# Altium integrated library Capacitors.IntLib: 260 symbols (part 3 of 3)
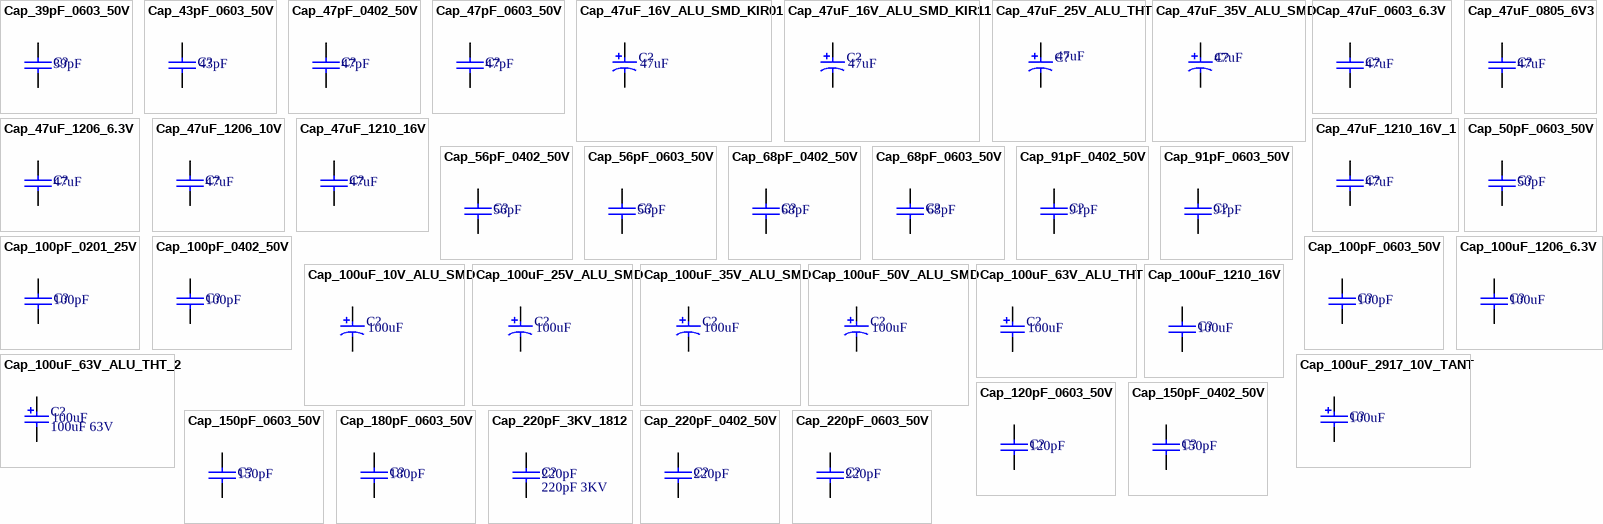
[diagram p8: symbols Cap_39pF_0603_50V to Cap_220pF_0603_50V]

## Cap_47uF_0805_6V3
designator C?, comment value 47uF  (hidden comment: 47uF 6V3)
CAP CER 47UF 6.3V X5R 0805; Manufacturer: Samsung Electro-Mechanics; Manufacturer Part Number: CL21A476MQYNNNE; Supplier 1: Digi-Key; Supplier Part Number 1: 1276-1852-1-ND; Last modified by: J.Jaramillo; Last modified date: 20240309; ComponentLink1Description: Digi-Key; ComponentLink1URL: https://www.digikey.com/products/en?keywords=1276-1852-1-ND
footprint 0805 (2012 Metric / 20190221 / C-A.Serna.A)
pins: 1, 2

## Cap_47uF_1206_6.3V
designator C?, comment value 47uF  (hidden comment: 47uF 6.3V)
CAP CER 47UF 6.3V X6S 1206; Manufacturer: Samsung Electro-Mechanics; Manufacturer Part Number: CL31X476KQHNNNE; Supplier 1: Digi-Key; Supplier Part Number 1: 1276-6771-1-ND; Reel stock: N/A; Last modified by: J.Jaramillo; Last modified date: 20240309; ComponentLink1Description: Digi-Key; ComponentLink1URL: https://www.digikey.com/products/en?keywords=1276-6771-1-ND
footprint 1206 (3216 Metric / 20190221 / C-A.Serna.A)
pins: 1, 2

## Cap_47uF_1206_10V
designator C?, comment value 47uF  (hidden comment: 47uF 10V)
CAP CER 47UF 10V X5R 1206; Manufacturer: Murata Electronics; Manufacturer Part Number: GRM31CR61A476ME15L; Supplier 1: Digi-Key; Supplier Part Number 1: 490-5528-1-ND; Last modified by: J.Jaramillo; Last modified date: 20240309; ComponentLink1Description: Digi-Key; ComponentLink1URL: https://www.digikey.com/en/products/detail/murata-electronics/GRM31CR61A476ME15L/2334879?s=N4IgTCBcDaIOICUCyBmAjAYQQNjQQQBYB2bJAUTQFYAZEAXQF8g
footprint 1206 (3216 Metric / 20190221 / C-A.Serna.A)
pins: 1, 2

## Cap_47uF_1210_16V
designator C?, comment value 47uF  (hidden comment: 47uF 16V)
CAP CER 47UF 16V X6S 1210; Manufacturer: Murata Electronics; Manufacturer Part Number: GRM32EC81C476KE15K; Supplier 1: Digi-Key; Supplier Part Number 1: 490-16309-1-ND; Last modified by: J.Jaramillo; Last modified date: 20240309; ComponentLink1Description: Digi-Key; ComponentLink1URL: https://www.digikey.com/en/products/detail/murata-electronics/GRM32EC81C476KE15K/7363053
footprint 1210 (3225 Metric / 20190221 / C-A.Serna.A)
pins: 1, 2

## Cap_47uF_1210_16V_1
designator C?, comment value 47uF  (hidden comment: 47uF 1210)
CAP CER 47UF 16V X5R 1210; Manufacturer: Taiyo Yuden; Manufacturer Part Number: EMK325BJ476MM-T; Supplier 1: Digi-Key; Supplier Part Number 1: 587-1436-1-ND; Last modified by: J.Jaramillo; Last modified date: 20240309; ComponentLink1Description: Digi-Key; ComponentLink1URL: https://www.digikey.com/en/products/detail/taiyo-yuden/EMK325BJ476MM-T/1004067
footprint 1210
pins: 1, 2

## Cap_50pF_0603_50V
designator C?, comment value 50pF  (hidden comment: 50pF 50V)
CAP CER 50PF 50V NP0 0603; Manufacturer: AVX Corporation; Manufacturer Part Number: 06035A500JAT2A; Supplier 1: Digi-Key; Supplier Part Number 1: 478-10324-1-ND; Last modified by: J.Jaramillo; Last modified date: 20240309; ComponentLink1Description: Digi-Key; ComponentLink1URL: https://www.digikey.com/en/products/detail/avx-corporation/06035A500JAT2A/1599883?s=N4IgTCBcDaICwHYAcBaAjABgMxjulAcgCIgC6AvkA
footprint 0603
pins: 1, 2

## Cap_56pF_0402_50V
designator C?, comment value 56pF  (hidden comment: 56pF 50V)
CAP CER 56PF 50V C0G/NP0 0402; Manufacturer: Samsung Electro-Mechanics; Manufacturer Part Number: CL05C560JB5NNNC; Supplier 1: Digi-Key; Supplier Part Number 1: 1276-1707-1-ND; Last modified by: J.Jaramillo; Last modified date: 20240309; ComponentLink1Description: Digi-Key; ComponentLink1URL: https://www.digikey.com/product-detail/en/samsung-electro-mechanics/CL05C560JB5NNNC/1276-1707-1-ND/3889793
footprint 0402 (1005 Metric / 20190221 / C-A.Serna.A)
footprint 0402_RF (1005 Metric / 20190221 / C-A.Serna.A)
pins: 1, 2

## Cap_56pF_0603_50V
designator C?, comment value 56pF  (hidden comment: 56pF 50V)
CAP CER 56PF 50V C0G/NP0 0603; Manufacturer: Samsung Electro-Mechanics; Manufacturer Part Number: CL10C560JB8NNNC; Supplier 1: Digi-Key; Supplier Part Number 1: 1276-1197-1-ND; Reel stock: N/A; Last modified by: J.Jaramillo; Last modified date: 20240309; ComponentLink1Description: Digi-Key; ComponentLink1URL: https://www.digikey.com/product-detail/en/samsung-electro-mechanics/CL10C560JB8NNNC/1276-1197-1-ND/3889283
footprint 0603
pins: 1, 2

## Cap_68pF_0402_50V
designator C?, comment value 68pF  (hidden comment: 68pF 50V)
CAP CER 68PF 50V C0G/NPO 0402; Manufacturer: Yageo; Manufacturer Part Number: CC0402JRNPO9BN680; Supplier 1: Digi-key; Supplier Part Number 1: 311-1340-1-ND; Last modified by: J.Jaramillo; Last modified date: 20240309; ComponentLink1Description: Digi-Key; ComponentLink1URL: https://www.digikey.com/product-detail/en/yageo/CC0402JRNPO9BN680/311-1340-1-ND/2103124
footprint 0402
footprint 0402_RF
pins: 1, 2

## Cap_68pF_0603_50V
designator C?, comment value 68pF  (hidden comment: 68pF 50V)
CAP CER 68PF 50V C0G/NP0 0603; Manufacturer: Walsin Technology Corporation; Manufacturer Part Number: 0603N680J500CT; Supplier 1: Digi-Key; Supplier Part Number 1: 1292-1542-1-ND; Last modified by: J.Jaramillo; Last modified date: 20240309; ComponentLink1Description: New link; ComponentLink1URL: https://www.digikey.com/en/products/detail/walsin-technology-corporation/0603N680J500CT/9355039
footprint 0603_0.8mm (1608 Metric/20230206/J-A.Sepulveda)
pins: 1, 2

## Cap_91pF_0402_50V
designator C?, comment 91pF
CAP CER 91PF 50V NPO 0402; Manufacturer: Yageo; Manufacturer Part Number: CC0402JRNPO9BN910; Supplier 1: Digikey; Supplier Part Number 1: 311-3756-1-ND; Last modified by: J.Jaramillo; Last modified date: 20240309; ComponentLink1Description: Digikey; ComponentLink1URL: https://www.digikey.com/en/products/detail/yageo/CC0402JRNPO9BN910/5883281?s=N4IgjCBcpgbFoDGUBmBDANgZwKYBoQB7KAbRAGYBOMAVgA4QBdAgBwBcoQBlNgJwEsAdgHMQAXwJhKdSghDJI6bPiKkQABiasOkbnyGiJIAEzqALLOjzUmXAWKQy1FgDEtIdpwCqg-mwDyKACyOGhYAK68OOIEALTGcgp84SoOZDTunroxILEQVgpKdqqO4OSZOiDiYmJAA; Value: 91pF
footprint 0402 (1005 Metric / 20190221 / C-A.Serna.A)
footprint 0402_RF (1005 Metric / 20190221 / C-A.Serna.A)
pins: 1, 2

## Cap_91pF_0603_50V
designator C?, comment 91pF
CAP CER 91PF 50V NP0 0603; Manufacturer: AVX Corporation; Manufacturer Part Number: 06035U910FAT2A; Supplier 1: Digikey; Supplier Part Number 1: 478-11383-1-ND; Last modified by: J.Jaramillo; Last modified date: 20240309; ComponentLink1Description: Digikey; ComponentLink1URL: https://www.digikey.com/en/products/detail/avx-corporation/06035U910FAT2A/1600386; Value: 91pF
footprint 0603 (1608 Metric / 20190221 / C-A.Serna.A)
pins: 1, 2

## Cap_100pF_0201_25V
designator C?, comment value 100pF  (hidden comment: 100pF 25V)
CAP CER 100PF 25V NP0 0201; Manufacturer: Murata Electronics; Manufacturer Part Number: GRM0335C1E101GA01D; Supplier 1: Digi-Key; Supplier Part Number 1: 490-17802-1-ND; Last modified by: J.Jaramillo; Last modified date: 20240309; ComponentLink1Description: Digi-Key; ComponentLink1URL: https://www.digikey.com/en/products/detail/murata-electronics/GRM0335C1E101GA01D/4358566?s=N4IgTCBcDaIOICUCyAGAzGgrAYQIwFFcVc4BBYgERAF0BfIA
footprint 0201 (20211214 / E.Naranjo)
pins: 1, 2

## Cap_100pF_0402_50V
designator C?, comment value 100pF  (hidden comment: 100pF 50V)
CAP CER 100PF 50V X7R 0402; Manufacturer: Wurth Electronics Inc.; Manufacturer Part Number: 885012205055; Supplier 1: Digi-Key; Supplier Part Number 1: 732-7550-1-ND; Reel stock: N/A; Last modified by: J.Jaramillo; Last modified date: 20240309; ComponentLink1Description: Digi-key; ComponentLink1URL: https://www.digikey.com/product-detail/en/wurth-electronics-inc/885012205055/732-7550-1-ND/5454177
footprint 0402
footprint 0402_RF
pins: 1, 2

## Cap_100pF_0603_50V
designator C?, comment value 100pF  (hidden comment: 100pF 550)
CAP CER 100PF 50V C0G/NPO 0603; Manufacturer Part Number: CC0603JRNPO9BN101; Manufacturer: Yageo; Last modified by: J.Jaramillo; Last modified date: 20240309; ComponentLink1Description: Digi-key; ComponentLink1URL: https://www.digikey.com/en/products/detail/yageo/CC0603JRNPO9BN101/302803?s=N4IgTCBcDaIMwEYEFoEAYBsBOVyByAIiALoC%2BQA; Reel stock: N/A; Supplier 1: Digi-Key; Supplier Part Number 1: 311-1069-1-ND
footprint 0603
pins: 1, 2

## Cap_100uF_10V_ALU_SMD
designator C?, comment value 100uF  (hidden comment: 100uF 20%)
CAP ALUM 100UF 20% 10V SMD; Manufacturer: Panasonic Electronic Components; Manufacturer Part Number: EEE-1AA101WAR; Supplier 1: Digi-Key; Supplier Part Number 1: PCE4566CT-ND; Last modified by: J.Jaramillo; Last modified date: 20220922; ComponentLink1Description: Digi-Key; ComponentLink1URL: https://www.digikey.com/en/products/detail/panasonic-electronic-components/EEE-1AA101WAR/1717732
footprint RADIAL_CAN_SMD_LSX5.30MM_HX5.40MM (20220922 / E,Naranjo)
pins: 1, 2

## Cap_100uF_25V_ALU_SMD
designator C?, comment value 100uF  (hidden comment: 100uF 25V)
CAP ALUM 100UF 20% 25V SMD; Manufacturer: Panasonic Electronic Components; Manufacturer Part Number: EEE-1EA101AP; Supplier 1: Digi-Key; Supplier Part Number 1: PCE4593CT-ND; Last modified by: J.Jaramillo; Last modified date: 20240309; ComponentLink1Description: Digi-Key; ComponentLink1URL: https://www.digikey.com/product-detail/en/panasonic-electronic-components/EEE-1EA101AP/PCE4593CT-ND/1718016
footprint RADIAL-CAN-SMD_Diax8mm_Hx10.2mm (20190503/J-P.Vargas.A)
pins: 1, 2

## Cap_100uF_35V_ALU_SMD
designator C?, comment value 100uF  (hidden comment: 100uF 50V)
CAP ALUM 100UF 20% 35V SMD; Manufacturer: Rubycon; Manufacturer Part Number: 50TZV100M8X10.5; Supplier 1: Digi-Key; Supplier Part Number 1: 1189-1651-1-ND; Last modified by: J.Jaramillo; Last modified date: 20220817; ComponentLink1Description: Digi-Key; ComponentLink1URL: https://www.digikey.com/en/products/detail/rubycon/50TZV100M8X10-5/3134931
footprint RADIAL-CAN-SMD_Diax8mm_Hx10.5mm (20220804/J-E.Pachon)
pins: 1, 2

## Cap_100uF_50V_ALU_SMD
designator C?, comment value 100uF  (hidden comment: 100uF 20%)
CAP ALUM 100uF ±20% 50V SMD; Manufacturer: Nichicon; Manufacturer Part Number: UWT1H101MNL1GS; Supplier 1: LCSC; Supplier Part Number 1: C445063; Reel stock: N/A; Last modified by: J.Jaramillo; Last modified date: 270326; ComponentLink1Description: LCSC; ComponentLink1URL: https://www.lcsc.com/product-detail/C445063.html?s_z=n_UWT1H101MNL1GS; ComponentLink2Description: Datasheet; ComponentLink2URL: https://www.lcsc.com/datasheet/C445063.pdf
footprint RADIAL-CAN-SMD_Diax8mm_Hx10.2mm (/  270326 / J.Jaramillo)
pins: 1, 2

## Cap_100uF_63V_ALU_THT
designator C?, comment value 100uF  (hidden comment: 100uF 63V)
CAP ALUM 100UF 20% 63V RADIAL; Manufacturer: Nichicon; Manufacturer Part Number: UVZ1J101MPD1TD; Supplier 1: Digi-Key; Supplier Part Number 1: 493-13479-1-ND; Last modified by: J.Jaramillo; Last modified date: 20240309; ComponentLink1Description: Digi-Key; ComponentLink1URL: https://www.digikey.com/product-detail/en/nichicon/UVZ1J101MPD1TD/493-13479-3-ND/4342035
footprint RADIAL-CAN_LSx5mm_Diax10mm_Hx14mm (/ 20190221 / C-A.Serna.A)
pins: 1, 2

## Cap_100uF_63V_ALU_THT_2
designator C?, comment 100uF 63V  value 100uF
CAP ALUM 100UF 20% 63V RADIAL; Manufacturer: SAMXON; Manufacturer Part Number: EGT-107M1JF11CE; ComponentLink1Description: New link; ComponentLink1URL: *; Last modified by: J.Jaramillo; Last modified date: 20240309; Supplier 1: Poshton; Supplier Part Number 1: EGT-107M1JF11CE
footprint RADIAL-CAN_LSx5mm_Diax8mm_Hx12mm (/20201209/J-E.Pachon)
pins: 1, 2

## Cap_100uF_1206_6.3V
designator C?, comment value 100uF  (hidden comment: 100uF 6.3V)
CAP CER 100UF 6.3V X5R 1206; Manufacturer Part Number: CC1206MKX5R5BB107; Manufacturer: Yageo; Reel stock: N/A; Last modified by: J.Jaramillo; Last modified date: 20240309; ComponentLink1Description: Digi-Key; ComponentLink1URL: https://www.digikey.com/en/products/detail/yageo/CC1206MKX5R5BB107/5195397?s=N4IgTCBcDaIMJwIxgAwDYCyBpAGgVgCU8AhYxFAdhAF0BfIA; Supplier 1: Digi-Key; Supplier Part Number 1: 13-CC1206MKX5R5BB107CT-ND
footprint 1206
pins: 1, 2

## Cap_100uF_1210_16V
designator C?, comment value 100uF  (hidden comment: 100uF 16V)
CAP CER 100UF 16V X5R 1210; Manufacturer: CAL-CHIP ELECTRONICS, INC.; Manufacturer Part Number: GMC32X5R107M16NT; Supplier 1: Digi-Key; Supplier Part Number 1: 2571-GMC32X5R107M16NTTR-ND; Last modified by: J.Jaramillo; Last modified date: 20240309
footprint 1210 (3225 Metric / 20190221 / C-A.Serna.A)
pins: 1, 2

## Cap_100uF_2917_10V_TANT
designator C?, comment value 100uF  (hidden comment: 100uF 10V)
CAP TANT 100UF 10% 10V 2917; Manufacturer: AVX Corporation; Manufacturer Part Number: TAJD107K010RNJ; Supplier 1: Digi-Key; Supplier Part Number 1: 478-3355-1-ND; Reel stock: N/A; Last modified by: J.Jaramillo; Last modified date: 20240309; ComponentLink1Description: Digi-Key; ComponentLink1URL: https://www.digikey.com/product-detail/en/avx-corporation/TAJD107K010RNJ/478-3355-1-ND/930147
footprint 2917_TANT (7343 Metric / 20230427/ J.Jaramillo)
pins: 1, 2

## Cap_120pF_0603_50V
designator C?, comment value 120pF  (hidden comment: 120pF 50V)
CAP CER 120PF 50V C0G/NPO 0603; Manufacturer: Yageo; Manufacturer Part Number: CC0603JRNPO9BN121; Last modified by: J.Jaramillo; Last modified date: 20240309; ComponentLink1Description: Digi-key; ComponentLink1URL: https://www.digikey.com/product-detail/en/yageo/CC0603JRNPO9BN121/311-1070-1-ND/302980; Supplier 1: Digi-Key; Supplier Part Number 1: 311-1070-1-ND
footprint 0603 (1608 Metric / 20190221 / C-A.Serna.A)
pins: 1, 2

## Cap_150pF_0402_50V
designator C?, comment value 150pF  (hidden comment: 150pF 50V)
CAP CER 150PF 50V C0G/NPO 0402; Manufacturer: Yageo; Manufacturer Part Number: CC0402JRNPO9BN151; Supplier 1: Digi-Key; Supplier Part Number 1: 311-1025-1-ND; Reel stock: N/A; Last modified by: J.Jaramillo; Last modified date: 20240309; ComponentLink1Description: Digi-Key; ComponentLink1URL: https://www.digikey.com/product-detail/en/yageo/CC0402JRNPO9BN151/311-1025-1-ND/302942
footprint 0402 (1005 Metric / 20190221 / C-A.Serna.A)
footprint 0402_RF (1005 Metric / 20190221 / C-A.Serna.A)
pins: 1, 2

## Cap_150pF_0603_50V
designator C?, comment value 150pF  (hidden comment: 150pF 50V)
CAP CER 150PF 50V X7R 0603; Manufacturer: Samsung Electro-Mechanics; Manufacturer Part Number: CL10B151KB8NNNC; Supplier 1: Digi-Key; Supplier Part Number 1: 1276-1956-1-ND; Reel stock: N/A; Last modified by: J.Jaramillo; Last modified date: 20240309; ComponentLink1Description: Digi-Key; ComponentLink1URL: https://www.digikey.com/product-detail/en/samsung-electro-mechanics/CL10B151KB8NNNC/1276-1956-1-ND/3890042
footprint 0603
pins: 1, 2

## Cap_180pF_0603_50V
designator C?, comment value 180pF  (hidden comment: 180pF 50V)
CAP CER 180PF 50V C0G/NP0 0603; Manufacturer: Samsung Electro-Mechanics; Manufacturer Part Number: CL10C181JB8NNNC; Supplier 1: Digi-Key; Supplier Part Number 1: 1276-1255-1-ND; Last modified by: J.Jaramillo; Last modified date: 20240309; ComponentLink1Description: Digi-Key; ComponentLink1URL: https://www.digikey.com/product-detail/en/samsung-electro-mechanics/CL10C181JB8NNNC/1276-1255-1-ND/3889341
footprint 0603
pins: 1, 2

## Cap_220pF_3KV_1812
designator C?, comment 220pF 3KV  value 220pF
CAP CER 220PF 3KV C0G/NPO 1812; Manufacturer: YAGEO; Manufacturer Part Number: CC1812JKNPOEBN221; Supplier 1: Digi-key; Supplier Part Number 1: 311-1182-1-ND; Last modified by: J.Jaramillo; Last modified date: 20240309; ComponentLink1Description: Digi-key; ComponentLink1URL: https://www.digikey.com/en/products/detail/yageo/CC1812JKNPOEBN221/302916?s=N4IgTCBcDaIMJwIwA5FgFIGkByAFA8gKIBC2YYiIAugL5A
footprint 1812 (/2022/F-A.Ospina)
pins: 1, 2

## Cap_220pF_0402_50V
designator C?, comment value 220pF  (hidden comment: 220pF 50V)
CAP CER 220PF 50V C0G/NP0 0402; Manufacturer: Murata Electronics; Manufacturer Part Number: GCM1555C1H221JA16D; Supplier 1: Digi-key; Supplier Part Number 1: 490-4927-1-ND; Last modified by: J.Jaramillo; Last modified date: 20240309; ComponentLink1Description: Digi-key; ComponentLink1URL: https://www.digikey.com/en/products/detail/murata-electronics/GCM1555C1H221JA16D/1765175
footprint 0402_RF
footprint 0402
pins: 1, 2

## Cap_220pF_0603_50V
designator C?, comment value 220pF  (hidden comment: 220pF 50V)
CAP CER 220PF 50V X7R 0603; Manufacturer: Walsin Technologies; Manufacturer Part Number: 0603B221K500CT; Reel stock: N/A; Last modified by: J.Jaramillo; Last modified date: 20240309; ComponentLink1Description: Digi-Key; ComponentLink1URL: https://www.digikey.com/en/products/detail/walsin-technology-corporation/0603B221K500CT/9354904?s=N4IgTCBcDaIIxgJxgLRwCwAYDsaUDkAREAXQF8g; Supplier 1: Digi-Key; Supplier Part Number 1: 1292-1407-1-ND
footprint 0603
pins: 1, 2

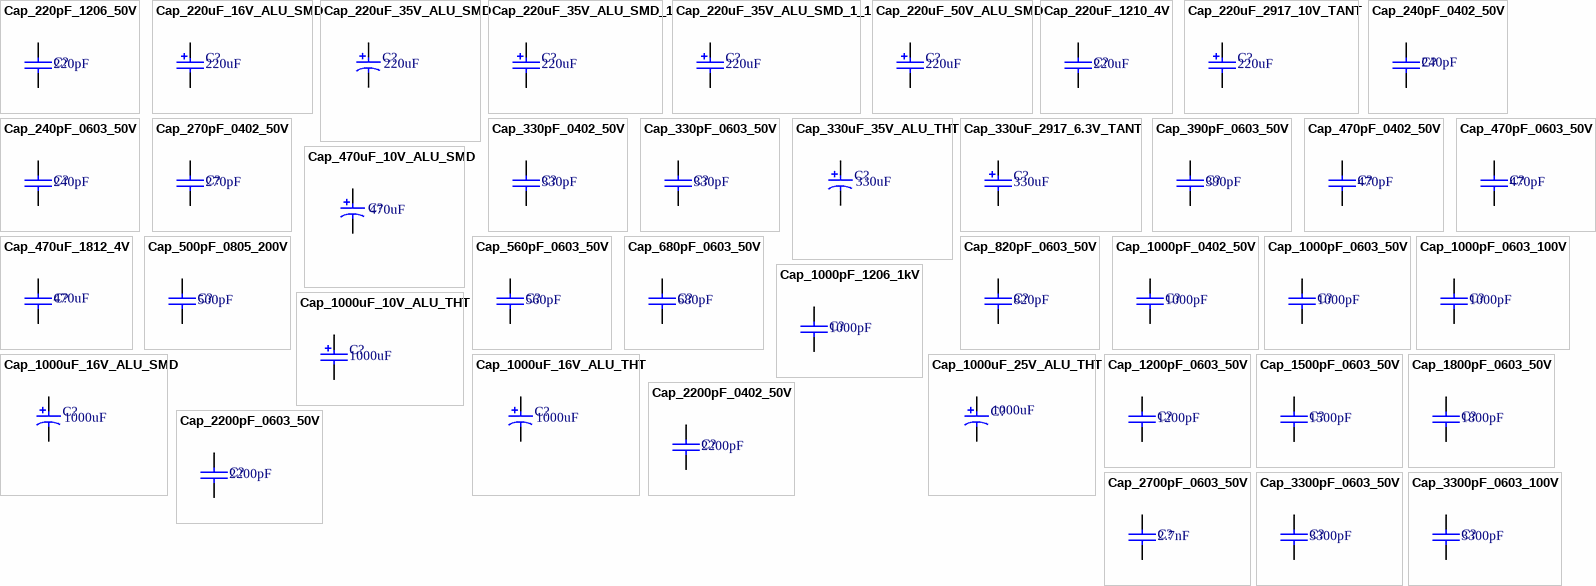
[diagram p5: symbols Cap_220pF_1206_50V to Cap_3300pF_0603_100V]

## Cap_220pF_1206_50V
designator C?, comment value 220pF  (hidden comment: 220pF 50V)
CAP CER 220PF 50V C0G/NP0 1206; Manufacturer: KEMET; Manufacturer Part Number: C1206C221J5GAC7800; Supplier 1: Digi-Key; Supplier Part Number 1: 399-C1206C221J5GAC7800CT-ND; Last modified by: J.Jaramillo; Last modified date: 20240309; ComponentLink1Description: Digi-Key; ComponentLink1URL: https://www.digikey.com/en/products/detail/kemet/C1206C221J5GAC7800/2215445?s=N4IgTCBcDaIMIEYwAYBscxgQKQKwHEBBOAdgA5lkQBdAXyA
footprint 1206 (3216 Metric / 20190221 / C-A.Serna.A)
pins: 1, 2

## Cap_220uF_16V_ALU_SMD
designator C?, comment value 220uF  (hidden comment: 220uF 16V)
CAP ALUM 220UF 20% 16V SMD; Manufacturer: Panasonic Electronic Components; Manufacturer Part Number: EEE-1CA221XP; Supplier 1: Digi-key; Supplier Part Number 1: PCE3885CT-ND; Last modified by: J.Jaramillo; Last modified date: 20240309; ComponentLink1Description: Digi-key; ComponentLink1URL: https://www.digikey.com/en/products/detail/panasonic-electronic-components/EEE-1CA221XP/766052?s=N4IgTCBcDaIKIILQEYDCBBMZkA0AKIAugL5A
footprint RADIAL-CAN-SMD_DIAX6.30MM_Hx7.70MM (/20220623/F-A.Ospina)
pins: 1, 2

## Cap_220uF_35V_ALU_SMD
designator C?, comment value 220uF  (hidden comment: 100uF 20%)
CAP ALUM 220uF ±20% 35V SMD; Manufacturer: ROQANG; Manufacturer Part Number: RVT1V221M0810; Supplier 1: LCSC; Supplier Part Number 1: C72498; Reel stock: N/A; Last modified by: J.Jaramillo; Last modified date: 270326; ComponentLink1Description: LCSC; ComponentLink1URL: https://www.lcsc.com/product-detail/C72498.html?s_z=n_C72498; ComponentLink2Description: Datasheet; ComponentLink2URL: https://www.lcsc.com/product-detail/C72498.html?s_z=n_C72498
footprint RADIAL-CAN-SMD_Diax8mm_Hx10.2mm (/  270326 / J.Jaramillo)
pins: 1, 2

## Cap_220uF_35V_ALU_SMD_1
designator C?, comment value 220uF  (hidden comment: 220uF 35V)
CAP ALUM 220UF 20% 35V SMD; Manufacturer: Panasonic Electronic Components; Manufacturer Part Number: EEE-1VA221UP; Supplier 1: Digi-Key; Supplier Part Number 1: PCE3955CT-ND; Reel stock: N/A; Last modified by: J.Jaramillo; Last modified date: 20240309; ComponentLink1Description: Digi-Key; ComponentLink1URL: https://www.digikey.com/products/en?keywords=PCE3955CT-ND
footprint RADIAL-CAN-SMD_Diax8mm_Hx10.2mm (20190503/J-P.Vargas.A)
pins: 1, 2

## Cap_220uF_35V_ALU_SMD_1_1
designator C?, comment value 220uF  (hidden comment: 220uF 35V)
CAP ALUM 220UF 20% 35V SMD; Manufacturer: Würth Elektronik; Manufacturer Part Number: 865060557008; Supplier 1: Digi-Key; Supplier Part Number 1: 732-8588-1-ND; Last modified by: J.Jaramillo; Last modified date: 20240309; ComponentLink1Description: Digi-Key; ComponentLink1URL: https://www.digikey.com/en/products/detail/w%C3%BCrth-elektronik/865060557008/5728183?s=N4IgTCBcDaIBwDYCsAGBKlIOwpXEAugL5A
footprint RADIAL-CAN-SMD_Diax10.3mm_Hx10.5mm (20220805/J-E.Pachon)
pins: 1, 2

## Cap_220uF_50V_ALU_SMD
designator C?, comment value 220uF  (hidden comment: 220uF 50V)
CAP ALUM 220UF 20% 50V SMD; Manufacturer: Panasonic; Manufacturer Part Number: EEE-FT1H221AP; Supplier 1: Mouser; Supplier Part Number 1: 667-EEE-FT1H221AP; Reel stock: N/A; Last modified by: J.Jaramillo; Last modified date: 20240309; ComponentLink1Description: Mouser; ComponentLink1URL: https://www.mouser.com/ProductDetail/Panasonic/EEE-FT1H221AP?qs=CMJjuEs1%252BuFFGBuxQbDfDA==
footprint RADIAL-CAN-SMD_Diax8mm_Hx10.2mm (20190503/J-P.Vargas.A)
pins: 1, 2

## Cap_220uF_1210_4V
designator C?, comment value 220uF  (hidden comment: 220uF 4V)
CAP CER 220UF 4V X6S 1210; Manufacturer: Murata Electronics; Manufacturer Part Number: GRM32EC80G227ME05L; Supplier 1: Digi-Key; Supplier Part Number 1: 490-13973-1-ND; Reel stock: N/A; Last modified by: J.Jaramillo; Last modified date: 20240309; ComponentLink1Description: Digi-Key; ComponentLink1URL: https://www.digikey.com/en/products/detail/murata-electronics/GRM32EC80G227ME05L/6155743?s=N4IgTCBcDaICwE4AMBaAjAZgQdg%2BlAcgCIgC6AvkA
footprint 1210 (3225 Metric / 20190221 / C-A.Serna.A)
pins: 1, 2

## Cap_220uF_2917_10V_TANT
designator C?, comment value 220uF  (hidden comment: 220uF 10V)
CAP TANT 220UF 10% 10V 2917; Manufacturer: AVX Corporation; Manufacturer Part Number: TAJD227K010RNJ; Supplier 1: Digi-Key; Supplier Part Number 1: 478-1731-1-ND; Last modified by: J.Jaramillo; Last modified date: 20240309; ComponentLink1Description: Digi-Key; ComponentLink1URL: https://www.digikey.tw/products/en?keywords=478-1731-1-ND
footprint 2917_TANT (7343 Metric / 20230427/ J.Jaramillo)
pins: 1, 2

## Cap_240pF_0402_50V
designator C?, comment value 240pF  (hidden comment: 240pF 50V)
CAP CER 240PF 50V X7R 0402; Manufacturer: AVX Corporation; Manufacturer Part Number: 04025C241JAT2A; Last modified by: J.Jaramillo; Last modified date: 20240309; Supplier 1: Digi-Key; Supplier Part Number 1: 478-11365-1-ND; ComponentLink1Description: Digi-Key; ComponentLink1URL: https://www.digikey.com/product-detail/en/avx-corporation/04025C241JAT2A/478-11365-1-ND/8019118
footprint 0402_RF
footprint 0402
pins: 1, 2

## Cap_240pF_0603_50V
designator C?, comment value 240pF  (hidden comment: 240pF 50V)
CAP CER 240PF 50V C0G/NP0 0603; Manufacturer Part Number: CL10C241JB8NNNC; Manufacturer: Samsung; Reel stock: N/A; Last modified by: J.Jaramillo; Last modified date: 20240309; ComponentLink1Description: Digi-Key; ComponentLink1URL: https://www.digikey.com/en/products/detail/samsung-electro-mechanics/CL10C241JB8NNNC/3887901?s=N4IgTCBcDaIIxgOwDYC0YwBYDMq6oDkAREAXQF8g; Supplier 1: Digi-Key; Supplier Part Number 1: 1276-2243-1-ND
footprint 0603
pins: 1, 2

## Cap_270pF_0402_50V
designator C?, comment value 270pF  (hidden comment: 270pF 50V)
CAP CER 270PF 50V C0G/NP0 0402; Manufacturer: Samsung Electro-Mechanics; Manufacturer Part Number: C0402C271J5GAC7867; Supplier 1: Digi-Key; Supplier Part Number 1: 399-8961-1-ND; Last modified by: J.Jaramillo; Last modified date: 20240309; ComponentLink1Description: Digi-Key; ComponentLink1URL: https://www.digikey.com/product-detail/en/samsung-electro-mechanics/CL05C560JB5NNNC/1276-1707-1-ND/3889793
footprint 0402 (1005 Metric / 20190221 / C-A.Serna.A)
footprint 0402_RF (1005 Metric / 20190221 / C-A.Serna.A)
pins: 1, 2

## Cap_330pF_0402_50V
designator C?, comment value 330pF  (hidden comment: 330pF 50V)
CAP CER 330PF 50V X7R 0402; Manufacturer: Murata Electronics North America; Manufacturer Part Number: GCM155R71H331KA37D; Supplier 1: Digi-Key; Supplier Part Number 1: 490-11150-1-ND; Last modified by: J.Jaramillo; Last modified date: 20240309; ComponentLink1Description: Digi-key; ComponentLink1URL: https://www.digikey.com/products/en?keywords=490-11150-1-ND
footprint 0402_RF
footprint 0402
pins: 1, 2

## Cap_330pF_0603_50V
designator C?, comment value 330pF  (hidden comment: 330pF 50V)
CAP CER 330PF 50V X7R 0603; Manufacturer: Walsin Technologies; Manufacturer Part Number: 0603B331K500CT; Reel stock: N/A; Last modified by: J.Jaramillo; Last modified date: 20240309; ComponentLink1Description: Digi-Key; ComponentLink1URL: https://www.digikey.com/en/products/detail/walsin-technology-corporation/0603B331K500CT/9354923?s=N4IgTCBcDaIIxgJxgLRwCxgGxpQOQBEQBdAXyA; Supplier 1: Digi-Key; Supplier Part Number 1: 1292-1426-1-ND
footprint 0603
pins: 1, 2

## Cap_330uF_35V_ALU_THT
designator C?, comment value 330uF  (hidden comment: 330uF 35V)
CAP ALUM 330UF 20% 35V RADIAL; Manufacturer: Wurth Electronics Inc.; Manufacturer Part Number: 860020575013; Supplier 1: Digi-Key; Supplier Part Number 1: 732-8947-1-ND; Last modified by: J.Jaramillo; Last modified date: 20240309; ComponentLink1Description: Digi-Key; ComponentLink1URL: https://www.digikey.com/product-detail/en/wurth-electronics-inc/860020575013/732-8947-1-ND/5728890
footprint RADIAL-CAN_LSx5mm_Diax10mm_Hx14mm (/ 20190221 / C-A.Serna.A)
pins: 1, 2

## Cap_330uF_2917_6.3V_TANT
designator C?, comment value 330uF  (hidden comment: 330uF 6.3V)
CAP TANT POLY 330UF 6.3V 2917; Manufacturer: Panasonic Electronic Components; Manufacturer Part Number: 6TPB330M; Supplier 1: Digi-Key; Supplier Part Number 1: P16617CT-ND; Last modified by: J.Jaramillo; Last modified date: 20240309; ComponentLink1Description: Digi-Key; ComponentLink1URL: https://www.digikey.com/en/products/detail/panasonic-electronic-components/6TPB330M/4204949
footprint 2917_TANT (7343 Metric / 20230427/ J.Jaramillo)
pins: 1, 2

## Cap_390pF_0603_50V
designator C?, comment value 390pF  (hidden comment: 390uF 50V)
CAP CER 390PF 50V X7R 0603; Manufacturer: Samsung Electro-Mechanics; Manufacturer Part Number: CL10B391KB8NNNC; Supplier 1: Digi-key; Supplier Part Number 1: 1276-2049-1-ND; Last modified by: J.Jaramillo; Last modified date: 20240309; ComponentLink1Description: Digi-Key; ComponentLink1URL: https://www.digikey.com/product-detail/en/samsung-electro-mechanics/CL10B391KB8NNNC/1276-2049-1-ND/3890135
footprint 0603 (1608 Metric / 20190221 / C-A.Serna.A)
pins: 1, 2

## Cap_470pF_0402_50V
designator C?, comment value 470pF  (hidden comment: 470pF 50V)
CAP CER 470PF 50V X7R 0402; Manufacturer: KEMET; Manufacturer Part Number: C0402C471K5RAC7867; Supplier 1: Digi-Key; Supplier Part Number 1: 399-C0402C471K5RAC7867CT-ND; Last modified by: J.Jaramillo; Last modified date: 20240309; ComponentLink1Description: Digi-Key; ComponentLink1URL: https://www.digikey.com/en/products/detail/kemet/C0402C471K5RAC7867/411027
footprint 0402 (1005 Metric / 20190221 / C-A.Serna.A)
pins: 1, 2

## Cap_470pF_0603_50V
designator C?, comment value 470pF  (hidden comment: 470pF 50V)
CAP CER 470PF 50V C0G/NP0 0603; Manufacturer: KEMET; Manufacturer Part Number: C0603C471J5GACTU; Supplier 1: Digi-Key; Supplier Part Number 1: 399-7922-1-ND; Reel stock: N/A; Last modified by: J.Jaramillo; Last modified date: 20240309; ComponentLink1Description: Digi-Key; ComponentLink1URL: https://www.digikey.com/product-detail/en/kemet/C0603C471J5GACTU/399-7922-1-ND/3471645
footprint 0603
pins: 1, 2

## Cap_470uF_10V_ALU_SMD
designator C?, comment value 470uF  (hidden comment: 470uF 10V)
470uF 10V ±20% SMD,D8xL10mm Aluminum Electrolytic Capacitors; Manufacturer: Lelon; Manufacturer Part Number: VZH471M1ATT-0810L; Supplier 1: LCSC; Supplier Part Number 1: C723180; Last modified by: J.Jaramillo; Last modified date: 20240309; ComponentLink1Description: LCSC; ComponentLink1URL: https://lcsc.com/product-detail/Aluminum-Electrolytic-Capacitors-SMD_Lelon-VZH471M1ATT-0810L_C723180.html
footprint RADIAL-CAN-SMD_DIAX8MM_HX10MM (/20221117/J-A.Sepulveda)
pins: 1, 2

## Cap_470uF_1812_4V
designator C?, comment value 470uF  (hidden comment: 470uF 4V)
CAP CER 470UF 4V X5R 1812; Manufacturer: Taiyo Yuden; Manufacturer Part Number: AMK432BJ477MM-T; Supplier 1: Digi-Key; Supplier Part Number 1: 587-4368-1-ND; Last modified by: J.Jaramillo; Last modified date: 20240309; ComponentLink1Description: Digi-Key; ComponentLink1URL: https://www.digikey.com/en/products/detail/taiyo-yuden/AMK432BJ477MM-T/5405547?s=N4IgjCBcpgnAHLKoDGUBmBDANgZwKYA0IA9lANogAMIAugL7EBMVALEtCGpFnkaRRCsA7FQAEAVoBidYgAcALlBABVAHYBLBQHl0AWXyZcAVwBO%2BEIxABaJsi5QFp4-zKRKAVjr0rd910w5TBQtElNcbyA
footprint 1812 (/20220517/F-A.Ospina)
pins: 1, 2

## Cap_500pF_0805_200V
designator C?, comment value 500pF  (hidden comment: 500pF 200V)
CAP CER 500PF 200V X7R 0805; Manufacturer: KYOCERA AVX; Manufacturer Part Number: 08052C501KAT2A; Supplier 1: Digi-Key; Supplier Part Number 1: 478-10454-1-ND; Last modified by: J.Jaramillo; Last modified date: 20240309; ComponentLink1Description: Digi-Key; ComponentLink1URL: https://www.digikey.com/en/products/detail/kyocera-avx/08052C501KAT2A/1601808
footprint 0805 (2012 Metric / 20190221 / C-A.Serna.A)
pins: 1, 2

## Cap_560pF_0603_50V
designator C?, comment value 560pF  (hidden comment: 560pF 50V)
CAP CER 560PF 50V X7R 0603; Manufacturer Part Number: 0603B561K500CT; Manufacturer: Walsin Technologies; Reel stock: N/A; Last modified by: J.Jaramillo; Last modified date: 20240309; ComponentLink1Description: Digi-Key; ComponentLink1URL: https://www.digikey.com/en/products/detail/walsin-technology-corporation/0603B561K500CT/9354951?s=N4IgTCBcDaIIxgJxgLRwCwFZ1pQOQBEQBdAXyA; Supplier 1: Digi-Key; Supplier Part Number 1: 1292-1454-1-ND
footprint 0603
pins: 1, 2

## Cap_680pF_0603_50V
designator C?, comment value 680pF  (hidden comment: 680pF 50V)
CAP CER 680PF 50V X7R 0603; Manufacturer: KEMET; Manufacturer Part Number: C0603C681K5RAC7867; Supplier 1: Digi-Key; Supplier Part Number 1: 399-C0603C681K5RAC7867CT-ND; Last modified by: J.Jaramillo; Last modified date: 20240309; ComponentLink1Description: Digi-Key; ComponentLink1URL: https://www.digikey.com/en/products/detail/kemet/C0603C681K5RAC7867/411079
footprint 0603 (1608 Metric / 20190221 / C-A.Serna.A)
pins: 1, 2

## Cap_820pF_0603_50V
designator C?, comment value 820pF  (hidden comment: 820pF 50V)
CAP CER 820PF 50V X7R 0603; Manufacturer Part Number: 0603B821K500CT; Manufacturer: Walsin Technologies; Reel stock: N/A; Last modified date: 20240309; ComponentLink1Description: Digi-Key; ComponentLink1URL: https://www.digikey.com/en/products/detail/walsin-technology-corporation/0603B821K500CT/9354961?s=N4IgTCBcDaIIxgJxgLRwCwDZ1pQOQBEQBdAXyA; Supplier 1: Digikey; Supplier Part Number 1: 1292-1464-1-ND; Last modified by: J.Jaramillo
footprint 0603
pins: 1, 2

## Cap_1000pF_0402_50V
designator C?, comment value 1000pF  (hidden comment: 1nF 50V)
CAP CER 1000PF 50V X7R 0402; Manufacturer: Murata Electronics North America; Manufacturer Part Number: GCM155R71H102KA37D; Supplier 1: Digi-Key; Supplier Part Number 1: 490-4761-1-ND; Reel stock: N/A; Last modified by: J.Jaramillo; Last modified date: 20240309; ComponentLink1Description: Digi-key; ComponentLink1URL: https://www.digikey.com/product-detail/en/murata-electronics-north-america/GCM155R71H102KA37D/490-4761-1-ND/1641680
footprint 0402
footprint 0402_RF
pins: 1, 2

## Cap_1000pF_0603_50V
designator C?, comment value 1000pF  (hidden comment: 1000pF 50V)
CAP CER 1000PF 50V X7R 0603; Manufacturer: Yageo; Manufacturer Part Number: CC0603KRX7R9BB102; Reel stock: N/A; Last modified by: J.Jaramillo; Last modified date: 20240309; ComponentLink1Description: Digi-Key; ComponentLink1URL: https://www.digikey.com/en/products/detail/yageo/CC0603KRX7R9BB102/302814?s=N4IgTCBcDaIMwEYEFoEAYAcbXIHIBEQBdAXyA; Supplier 1: Digi-Key; Supplier Part Number 1: 311-1080-1-ND
footprint 0603
pins: 1, 2

## Cap_1000pF_0603_100V
designator C?, comment value 1000pF  (hidden comment: 1nF 100V)
CAP CER 1000PF 100V X7R 0603; Manufacturer: Samsung Electro-Mechanics; Manufacturer Part Number: CL10B102KC8NNNC; Supplier 1: Digi-key; Supplier Part Number 1: 1276-1131-1-ND; Last modified by: J.Jaramillo; Last modified date: 20240309; ComponentLink1Description: Digi-key; ComponentLink1URL: https://www.digikey.com/en/products/detail/samsung-electro-mechanics/CL10B102KC8NNNC/3886789?s=N4IgTCBcDaIIxgOwDYC0c4GY7tQOQBEQBdAXyA
footprint 0603
pins: 1, 2

## Cap_1000pF_1206_1kV
designator C?, comment value 1000pF  (hidden comment: 1000pF 1kV)
CAP CER 1000PF 1KV X7R 1206; Manufacturer: KEMET; Manufacturer Part Number: C1206C102KDRACTU; Supplier 1: Digi-Key; Supplier Part Number 1: 399-3437-1-ND; Reel stock: N/A; Last modified by: J.Jaramillo; Last modified date: 20240309; ComponentLink1Description: Digi-Key; ComponentLink1URL: https://www.digikey.com/products/en?keywords=399-3437-1-ND
footprint 1206 (3216 Metric / 20190221 / C-A.Serna.A)
pins: 1, 2

## Cap_1000uF_10V_ALU_THT
designator C?, comment value 1000uF  (hidden comment: 1000uF 10V)
CAP ALUM 1000UF 20% 10V RADIAL; Manufacturer: Panasonic Electronic Components; Manufacturer Part Number: EEU-FR1A102LB; Supplier 1: Digi-key; Supplier Part Number 1: P15317CT-ND; Last modified by: J.Jaramillo; Last modified date: 20240309; ComponentLink1Description: Digi-key; ComponentLink1URL: https://www.digikey.com/en/products/detail/panasonic-electronic-components/EEU-FR1A102LB/3072197?s=N4IgTCBcDaIKJwKoFoBiAlAjAQUwBjABkAhEAXQF8g
footprint RADIAL-CAN_LSX5MM_DIAX8mm_HX16.50MM (/20220623/F-A.Ospina)
pins: 1, 2

## Cap_1000uF_16V_ALU_SMD
designator C?, comment value 1000uF  (hidden comment: 1000uF 16V)
1000uF 10mm 16V 10mm ±20% SMD,D10xL10mm Aluminum Electrolytic Capacitors; Manufacturer: Lelon; Manufacturer Part Number: VZH102M1CTR-1010; Supplier 1: LCSC; Supplier Part Number 1: C249844; Last modified by: J.Jaramillo; Last modified date: 20221117; ComponentLink1Description: LCSC; ComponentLink1URL: https://lcsc.com/product-detail/Aluminum-Electrolytic-Capacitors-SMD_Lelon-VZH102M1CTR-1010_C249844.html
footprint RADIAL-CAN-SMD_DIAX10MM_HX10MM (/20221117/J-A.Sepulveda)
pins: 1, 2

## Cap_1000uF_16V_ALU_THT
designator C?, comment value 1000uF  (hidden comment: 1000uF 16V)
CAP ALUM 1000UF 20% 16V RADIAL; Manufacturer: Rubycon; Manufacturer Part Number: 16PX1000MEFC10X12.5; Supplier 1: Digi-Key; Supplier Part Number 1: 1189-2188-ND; Last modified by: J.Jaramillo; Last modified date: 20240309; ComponentLink1Description: Digi-Key; ComponentLink1URL: https://www.digikey.com/product-detail/en/rubycon/16PX1000MEFC10X12.5/1189-2188-ND/3563561
footprint RADIAL-CAN_LSx5mm_Diax10mm_Hx14mm (/ 20190221 / C-A.Serna.A)
footprint RADIAL-CAN_LSx5mm_Diax10mm_Hx14mm (/ 20190221 / C-A.Serna.A)
pins: 1, 2

## Cap_1000uF_25V_ALU_THT
designator C?, comment value 1000uF  (hidden comment: 1000uF 25V)
CAP 1000uf/25V,10*16,105℃ RADIAL; Manufacturer: SamXon; Manufacturer Part Number: KM 1000U/25V; Last modified by: J.Jaramillo; Last modified date: 20240309; Supplier 1: Poshton; Supplier Part Number 1: KM 1000U/25V
footprint RADIAL-CAN_LSx5mm_Diax10mm_Hx14mm (/ 20190221 / C-A.Serna.A)
pins: 1, 2

## Cap_1200pF_0603_50V
designator C?, comment value 1200pF  (hidden comment: 1200pF 50V)
CAP CER 1200PF 50V X7R 0603; Manufacturer: Samsung Electro-Mechanics; Manufacturer Part Number: CL10B122KB8NNNC; Last modified by: J.Jaramillo; Last modified date: 20240309; ComponentLink1Description: Digi-key; ComponentLink1URL: https://www.digikey.com/product-detail/en/samsung-electro-mechanics/CL10B122KB8NNNC/1276-1951-1-ND/3890037; Supplier 1: Digi-Key; Supplier Part Number 1: 1276-1951-1-ND
footprint 0603 (1608 Metric / 20190221 / C-A.Serna.A)
pins: 1, 2

## Cap_1500pF_0603_50V
designator C?, comment value 1500pF  (hidden comment: 1500pF 50V)
CAP CER 1500PF 50V X7R 0603; Manufacturer: Walsin Technologies; Manufacturer Part Number: 0603B152K500CT; Reel stock: N/A; Last modified by: J.Jaramillo; Last modified date: 20240309; ComponentLink1Description: Digi-Key; ComponentLink1URL: https://www.digikey.com/en/products/detail/walsin-technology-corporation/0603B152K500CT/9354897?s=N4IgTCBcDaIIxgJxgLRwCwAZNpQOQBEQBdAXyA; Supplier 1: Digi-Key; Supplier Part Number 1: 1292-1400-1-ND
footprint 0603
pins: 1, 2

## Cap_1800pF_0603_50V
designator C?, comment value 1800pF  (hidden comment: 1800pF 50V)
CAP CER 1800PF 50V X7R 0603; Manufacturer: Yageo; Manufacturer Part Number: CC0603KRX7R9BB182; Last modified by: J.Jaramillo; Last modified date: 20240309; ComponentLink1Description: Digi-Key; ComponentLink1URL: https://www.digikey.com/en/products/detail/yageo/CC0603KRX7R9BB182/5883800; Supplier 1: Digi-Key; Supplier Part Number 1: 311-3373-1-ND
footprint 0603
pins: 1, 2

## Cap_2200pF_0402_50V
designator C?, comment value 2200pF  (hidden comment: 2.2nF 50V)
CAP CER 2200PF 50V X7R 0402; Manufacturer: Murata Electronics North America; Manufacturer Part Number: GCM155R71H222KA37D; Last modified by: J.Jaramillo; Last modified date: 20240309; ComponentLink1Description: Digi-key; ComponentLink1URL: https://www.digikey.com/products/en?keywords=490-4914-1-ND; Supplier 1: Digi-Key; Supplier Part Number 1: 490-4914-1-ND
footprint 0402_RF
footprint 0402
pins: 1, 2

## Cap_2200pF_0603_50V
designator C?, comment value 2200pF  (hidden comment: 2200pF 50V)
CAP CER 2200PF 50V X7R 0603; Manufacturer: Yageo; Manufacturer Part Number: CC0603KRX7R9BB222; Reel stock: N/A; Last modified by: J.Jaramillo; Last modified date: 20240309; ComponentLink1Description: Digi-Key; ComponentLink1URL: https://www.digikey.com/en/products/detail/yageo/CC0603KRX7R9BB222/302815?s=N4IgTCBcDaIMwEYEFoEAYAcKUDkAiIAugL5A; Supplier 1: Digi-Key; Supplier Part Number 1: 311-1081-1-ND
footprint 0603
pins: 1, 2

## Cap_2700pF_0603_50V
designator C?, comment value 2.7nF  (hidden comment: 2700pF 50V)
CAP CER 2700PF 50V X7R 0603; Manufacturer: YAGEO; Manufacturer Part Number: CC0603KRX7R9BB272; Supplier 1: Digi-Key; Supplier Part Number 1: 311-1809-1-ND; Last modified by: J.Jaramillo; Last modified date: 20240309; ComponentLink1Description: Digi-Key; ComponentLink1URL: https://www.digikey.com/en/products/detail/yageo/CC0603KRX7R9BB272/5195216
footprint 0603 (1608 Metric / 20190221 / C-A.Serna.A)
pins: 1, 2

## Cap_3300pF_0603_50V
designator C?, comment value 3300pF  (hidden comment: 3300pF 50V)
CAP CER 3300PF 50V X7R 0603; Manufacturer: Samsung Electro-Mechanics; Manufacturer Part Number: CC0603JRX7R9BB332; Supplier 1: Digi-Key; Supplier Part Number 1: 311-4014-1-ND; Reel stock: N/A; Last modified by: J.Jaramillo; Last modified date: 20240309; ComponentLink1Description: Digi-Key; ComponentLink1URL: https://www.digikey.com/en/products/detail/yageo/CC0603JRX7R9BB332/5883688
footprint 0603
pins: 1, 2

## Cap_3300pF_0603_100V
designator C?, comment value 3300pF  (hidden comment: 3.3nF 100V)
CAP CER 3300PF 100V X7R 0603; Manufacturer: Yageo; Manufacturer Part Number: CC0603KRX7R9BB332; Supplier 1: Digi-Key; Supplier Part Number 1: 311-1082-1-ND; Last modified by: J.Jaramillo; Last modified date: 20240309; ComponentLink1Description: Digi-Key; ComponentLink1URL: https://www.digikey.com/en/products/detail/yageo/CC0603KRX7R9BB332/302816?s=N4IgTCBcDaIMJwAwDZEGYDSAlAGgdiwE4AhYtNCAXQF8g
footprint 0603
pins: 1, 2

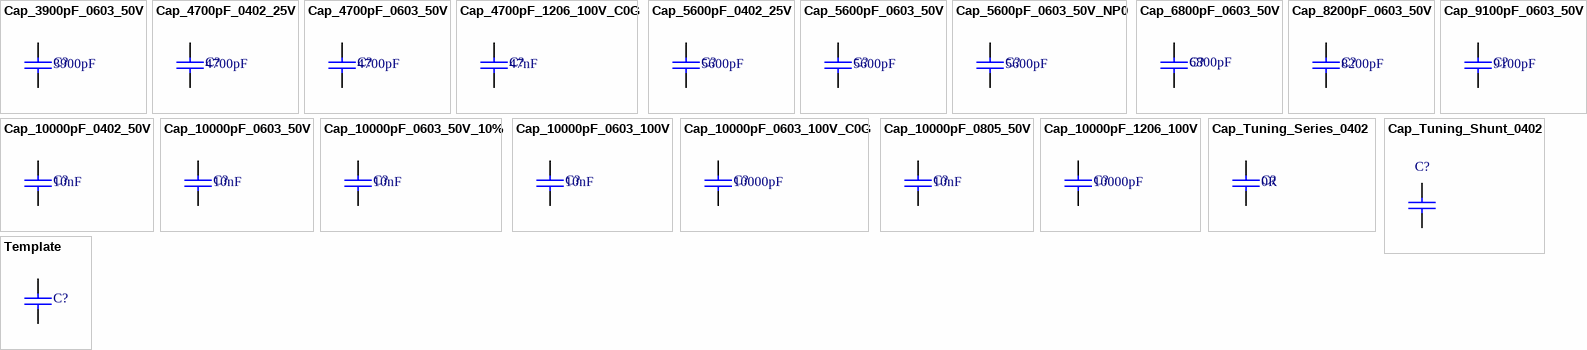
[diagram p6: symbols Cap_3900pF_0603_50V to Template]

## Cap_3900pF_0603_50V
designator C?, comment value 3900pF  (hidden comment: 3900pF 50V)
CAP CER 3900PF 50V X7R 0603; Manufacturer Part Number: 0603B392K500CT; Manufacturer: Walsin Technologies; Reel stock: N/A; Last modified by: J.Jaramillo; Last modified date: 20240309; ComponentLink1Description: Digi-Key; ComponentLink1URL: https://www.digikey.com/en/products/detail/walsin-technology-corporation/0603B392K500CT/9354932?s=N4IgTCBcDaIIxgJxgLRwCwGYCsaUDkAREAXQF8g; Supplier 1: Digi-Key; Supplier Part Number 1: 1292-1435-1-ND
footprint 0603
pins: 1, 2

## Cap_4700pF_0402_25V
designator C?, comment value 4700pF  (hidden comment: 4700pF 25V)
CAP CER 4700PF 25V X7R 0402; Manufacturer: Yageo; Manufacturer Part Number: CC0402JRX7R8BB472; Supplier 1: Digikey; Supplier Part Number 1: 311-3761-1-ND; Last modified by: J.Jaramillo; Last modified date: 20240309; ComponentLink1Description: Digikey; ComponentLink1URL: https://www.digikey.com/en/products/detail/yageo/CC0402JRX7R8BB472/5883295
footprint 0402 (1005 Metric / 20190221 / C-A.Serna.A)
footprint 0402_RF (1005 Metric / 20190221 / C-A.Serna.A)
pins: 1, 2

## Cap_4700pF_0603_50V
designator C?, comment value 4700pF  (hidden comment: 4700pF 50V)
CAP CER 4700PF 50V X7R 0603; Manufacturer Part Number: 0603B472K500CT; Manufacturer: Walsin Technologies; Reel stock: N/A; Last modified by: J.Jaramillo; Last modified date: 20240309; ComponentLink1Description: Digi-Key; ComponentLink1URL: https://www.digikey.com/en/products/detail/walsin-technology-corporation/0603B472K500CT/9354940?s=N4IgTCBcDaIIxgJxgLRwCzoMxpQOQBEQBdAXyA; Supplier 1: Digi-Key; Supplier Part Number 1: 1292-1443-1-ND
footprint 0603
pins: 1, 2

## Cap_4700pF_1206_100V_C0G
designator C?, comment value 47nF  (hidden comment: 47nF 100V)
CAP CER 1206 47NF 100V C0G 5%; Manufacturer: KEMET; Manufacturer Part Number: C1206C473J1GEC7210; Supplier 1: Digi-Key; Supplier Part Number 1: 399-C1206C473J1GEC7210CT-ND; Last modified by: J.Jaramillo; Last modified date: 20240309; ComponentLink1Description: Digi-Key; ComponentLink1URL: https://www.digikey.com/en/products/detail/kemet/C1206C473J1GEC7210/8646269
footprint 1206 (3216 Metric / 20190221 / C-A.Serna.A)
pins: 1, 2

## Cap_5600pF_0402_25V
designator C?, comment value 5600pF  (hidden comment: 5600pF 25V)
CAP CER 5600PF 25V X7R 0402; Manufacturer: KEMET; Manufacturer Part Number: C0402C562K3RACTU; Supplier 1: Digi-Key; Supplier Part Number 1: 399-1276-1-ND; Last modified by: J.Jaramillo; Last modified date: 20240309; ComponentLink1Description: Digi-key; ComponentLink1URL: https://www.digikey.com/en/products/detail/kemet/C0402C562K3RACTU/416039
footprint 0402
footprint 0402_RF
pins: 1, 2

## Cap_5600pF_0603_50V
designator C?, comment value 5600pF  (hidden comment: 5600pF 50V)
CAP CER 5600PF 50V X7R 0603; Manufacturer Part Number: CL10B562KB8NNNC; Manufacturer: Samsung; Reel stock: N/A; Last modified by: J.Jaramillo; Last modified date: 20240309; ComponentLink1Description: Digi-Key; ComponentLink1URL: https://www.digikey.com/en/products/detail/samsung-electro-mechanics/CL10B562KB8NNNC/3887749?s=N4IgTCBcDaIIxgOwDYC0YAMBOOrcDkAREAXQF8g; Supplier 1: Digi-Key; Supplier Part Number 1: 1276-2091-1-ND
footprint 0603
pins: 1, 2

## Cap_5600pF_0603_50V_NP0
designator C?, comment value 5600pF  (hidden comment: 5600pF 50V)
CAP CER 5600PF 50V NP0 0603; Manufacturer: KEMET; Manufacturer Part Number: C0603C562J5GAC7867; Supplier 1: Digi-Key; Supplier Part Number 1: 399-14531-1-ND; Last modified by: J.Jaramillo; Last modified date: 20240309; ComponentLink1Description: Digi-Key; ComponentLink1URL: https://www.digikey.com/en/products/detail/kemet/C0603C562J5GAC7867/2200999
footprint 0603 (1608 Metric / 20190221 / C-A.Serna.A)
pins: 1, 2

## Cap_6800pF_0603_50V
designator C?, comment value 6800pF  (hidden comment: 6800pF 50V)
CAP CER 6800PF 50V X7R 0603; Manufacturer: KEMET; Manufacturer Part Number: C0603C682K5RACTU; Supplier 1: Digi-Key; Supplier Part Number 1: 399-1089-1-ND; Reel stock: N/A; Last modified by: J.Jaramillo; ComponentLink1Description: Digi-Key; ComponentLink1URL: https://www.digikey.com/en/products/detail/kemet/C0603C682K5RACTU/411364; Last modified date: 20240309
footprint 0603
pins: 1, 2

## Cap_8200pF_0603_50V
designator C?, comment value 8200pF  (hidden comment: 8200pF 50V)
CAP CER 8200PF 50V X7R 0603; Manufacturer Part Number: CC0603KRX7R9BB822; Manufacturer: Yageo; Reel stock: N/A; Last modified by: J.Jaramillo; Last modified date: 20240309; ComponentLink1Description: Digi-Key; ComponentLink1URL: https://www.digikey.com/en/products/detail/yageo/CC0603KRX7R9BB822/5195218?s=N4IgTCBcDaIMwEYEFoEA4muQOQCIgF0BfIA; Supplier 1: Digi-Key; Supplier Part Number 1: 311-1811-1-ND
footprint 0603
pins: 1, 2

## Cap_9100pF_0603_50V
designator C?, comment value 9100pF  (hidden comment: 9100pF 50V)
CAP CER 9100PF 50V U2J 0603; Manufacturer: KEMET; Manufacturer Part Number: C0603X912J5JAC7867; Supplier 1: Digi-Key; Supplier Part Number 1: 399-13417-1-ND; Last modified by: J.Jaramillo; Last modified date: 20240309; ComponentLink1Description: Digi-Key; ComponentLink1URL: https://www.digikey.com/en/products/detail/kemet/C0603X912J5JAC7867/6123098
footprint 0603 (1608 Metric / 20190221 / C-A.Serna.A)
pins: 1, 2

## Cap_10000pF_0402_50V
designator C?, comment value 10nF  (hidden comment: 10nF 50V)
CAP CER 10000PF 50V X7R 0402; Manufacturer: Murata Electronics North America; Manufacturer Part Number: GCM155R71H103KA55D; Supplier 1: Digi-Key; Supplier Part Number 1: 490-4762-1-ND; Reel stock: N/A; Last modified by: J.Jaramillo; Last modified date: 20240309; ComponentLink1Description: Digi-Key; ComponentLink1URL: https://www.digikey.com/product-detail/en/murata-electronics-north-america/GCM155R71H103KA55D/490-4762-1-ND/1641681
footprint 0402
footprint 0402_RF
pins: 1, 2

## Cap_10000pF_0603_50V
designator C?, comment value 10nF  (hidden comment: 10nF 50V)
CAP CER 10000PF 50V X7R 0603; Manufacturer: Yageo; Manufacturer Part Number: CC0603JRX7R9BB103; Supplier 1: Digi-Key; Supplier Part Number 1: 311-1778-1-ND; Reel stock: N/A; Last modified by: J.Jaramillo; Last modified date: 20240309; ComponentLink1Description: Digi-key; ComponentLink1URL: https://www.digikey.com/en/products/detail/yageo/CC0603JRX7R9BB103/5195187
footprint 0603
pins: 1, 2

## Cap_10000pF_0603_50V_10%
designator C?, comment value 10nF  (hidden comment: 10nF 50V)
CAP CER 10000PF 50V X7R 0603; Manufacturer: Yageo; Manufacturer Part Number: CC0603KRX7R9BB103; Supplier 1: Digi-Key; Supplier Part Number 1: 311-1085-1-ND; Last modified by: J.Jaramillo; Last modified date: 20240309; ComponentLink1Description: Digi-key; ComponentLink1URL: https://www.digikey.com/en/products/detail/yageo/CC0603KRX7R9BB103/302819?s=N4IgTCBcDaIMJwAwDZEGYDSAlAGgdiwE4AhYgRnRAF0BfIA
footprint 0603
pins: 1, 2

## Cap_10000pF_0603_100V
designator C?, comment value 10nF  (hidden comment: 10nF 100V)
CAP CER 10000PF 100V X7R 0603; Manufacturer: Walsin Technology Corporation; Manufacturer Part Number: 0603B103K101CT; Supplier 1: Digi-Key; Supplier Part Number 1: 1292-1383-1-ND; Last modified by: J.Jaramillo; Last modified date: 20240309; ComponentLink1Description: Digi-Key; ComponentLink1URL: https://www.digikey.com/en/products/detail/walsin-technology-corporation/0603B103K101CT/9354880?s=N4IgTCBcDaIIxgJxgLRwMwA51pQOQBEQBdAXyA
footprint 0603
pins: 1, 2

## Cap_10000pF_0603_100V_C0G
designator C?, comment value 10000pF  (hidden comment: 10000pF 100V)
CAP CER 10000PF 100V C0G 0603; Manufacturer: TDK Corporation; Manufacturer Part Number: C1608C0G2A103J080AC; Supplier 1: Digi-Key; Supplier Part Number 1: 445-172665-1-ND; Last modified by: J.Jaramillo; Last modified date: 20240309; ComponentLink1Description: Digi-Key; ComponentLink1URL: https://www.digikey.com/en/products/detail/tdk-corporation/C1608C0G2A103J080AC/5023343
footprint 1206 (3216 Metric / 20190221 / C-A.Serna.A)
pins: 1, 2

## Cap_10000pF_0805_50V
designator C?, comment value 10nF  (hidden comment: 10000pF 50V)
CAP CER 10000PF 50V X7R 0805; Manufacturer: Yageo; Manufacturer Part Number: CC0805JRX7R9BB103; Supplier 1: Digi-Key; Supplier Part Number 1: 311-1857-1-ND; Reel stock: N/A; Last modified by: J.Jaramillo; Last modified date: 20240309; ComponentLink1Description: Digi-Key; ComponentLink1URL: https://www.digikey.com/product-detail/en/yageo/CC0805JRX7R9BB103/311-1857-1-ND/5195759
footprint 0805
pins: 1, 2

## Cap_10000pF_1206_100V
designator C?, comment value 10000pF  (hidden comment: 10000pF 100V)
CAP CER 10000PF 100V X7R 1206; Manufacturer: Würth Elektronik; Manufacturer Part Number: 885012208112; Supplier 1: Digi-Key; Supplier Part Number 1: 732-12140-1-ND; Last modified by: J.Jaramillo; Last modified date: 20240309; ComponentLink1Description: Digi-Key; ComponentLink1URL: https://www.digikey.com/en/products/detail/w%C3%BCrth-elektronik/885012208112/9345952
footprint 1206 (3216 Metric / 20190221 / C-A.Serna.A)
pins: 1, 2

## Cap_Tuning_Series_0402
designator C?, comment value 0R  (hidden comment: 0R 1/16W)
RES SMD 0 OHM JUMPER 1/16W 0402; Manufacturer: Samsung Electro-Mechanics; Manufacturer Part Number: RC1005J000CS; ComponentLink1URL: https://www.digikey.com/products/en?keywords=1276-3480-1-ND; Supplier 1: Poshton; Supplier Part Number 1: RC0402FR-070RL; Reel stock: N/A; Last modified by: J.Jaramillo; Last modified date: 20240309; ComponentLink1Description: Digi-key
footprint 0402_RF
pins: 1, 2

## Cap_Tuning_Shunt_0402
designator C?  (no BOM)
Capacitor symbol for tuning network of Tx lines; Manufacturer: NA; Reel stock: RF tuning bag; Manufacturer Part Number: NA; Supplier 1: NA; Supplier Part Number 1: NA; Last modified by: J.Jaramillo; Last modified date: 20240309
footprint 0402_RF
pins: 1, 2

## Template
designator C?
Supplier 1: Digi-Key; Last modified date: 20240309
pins: 1, 2